# Altium footprint library JBC_245_PCB.PcbLib: 3 footprints
Each footprint in its own frame and in the unit in brackets; x right, y up, seen from the top. Pads: shape width x height; smd on the part's side, far side on the other; paste and mask are expansions set on the pad; w line width, h text height; cw(c..) or ccw(c..) is an arc to the next point about the centre after c.
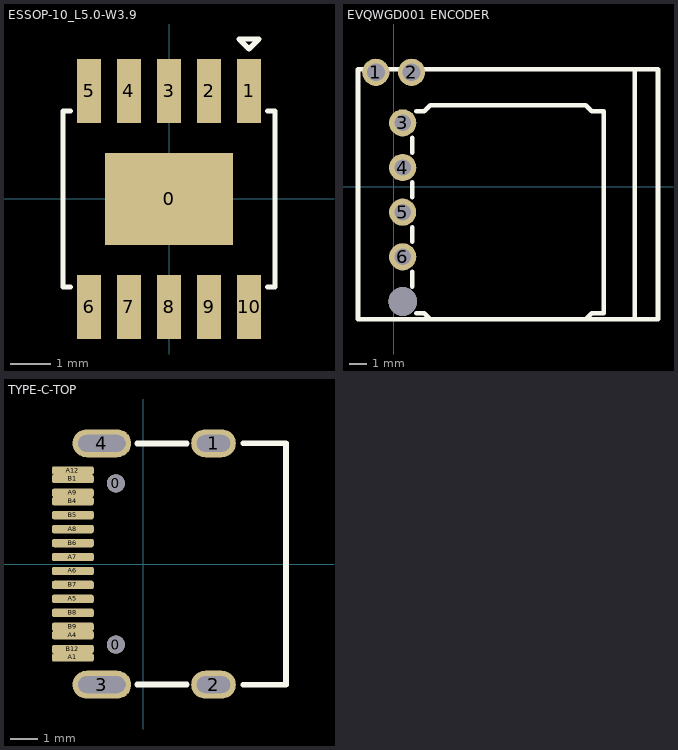
[diagram p0: the footprints below, top view; thin cyan lines are the x and y axes]

## ESSOP-10_L5.0-W3.9 [mm]
pads (11):
  rect 3.2x2.3 smd: 0(0,0)
  rect 0.6x1.6 smd: 1(2,2.7) 2(1,2.7) 3(0,2.7) 4(-1,2.7) 5(-2,2.7) 6(-2,-2.7) 7(-1,-2.7) 8(0,-2.7) 9(1,-2.7) 10(2,-2.7)
Top Overlay:
  lines w0.127: -2.468,-2.2 -2.65,-2.2 -2.65,2.2 -2.468,2.2 ; 2.468,-2.2 2.65,-2.2 2.65,2.2 2.468,2.2 ; 1.75,4 2,3.75 2.25,4 1.75,4

## EVQWGD001 ENCODER [mil]
pads (7):
  round 60 hole 39.37: 1(-39.37,252.66) 2(39.37,252.66)
  round 60 hole 36: 3(19.69,141.05) 4(19.69,42.62) 5(19.69,-55.81) 6(19.69,-154.23)
  round 62.99 hole 62.99 unplated: ""(19.69,-252.66)
Top Overlay:
  lines w10: 41.34,-219.77 41.34,-187.11 ; 41.34,-121.35 41.34,-88.68 ; 41.34,-22.92 41.34,9.74 ; 41.34,75.5 41.34,108.17 ; 49.61,-278.24 67.18,-278.24 80.71,-291.72 423.23,-291.72 436.76,-278.24 462.6,-278.24 462.6,166.64 436.76,166.64 423.23,180.12 80.71,180.12 67.18,166.64 49.61,166.64 ; 531.5,-292.02 531.5,259.16 ; -78.74,-292.02 582.68,-292.02 582.68,259.16 -78.74,259.16 -78.74,-292.02
3D body "Encoder.step": height 531.42, standoff -128.03, extent -84.37,-292.34 569.17,252.94

## TYPE-C-TOP [mm]
height 4.3
pads (22):
  round 0.65 hole 0.65: 0(-0.98,-2.89) 0(-0.98,2.89)
  oval 1.6x1 hole 0.6 slot 1.2 at 0 deg: 1(2.52,4.325) 2(2.52,-4.325)
  oval 2.1x1 hole 0.6 slot 1.7 at 0 deg: 3(-1.48,-4.325) 4(-1.48,4.325)
  rrect50% 1.5x0.3 smd: A1(-2.52,-3.35) A4(-2.52,-2.55) A5(-2.52,-1.25) A6(-2.52,-0.25) A7(-2.52,0.25) A8(-2.52,1.25) A9(-2.52,2.55) A12(-2.52,3.35) B1(-2.52,3.05) B4(-2.52,2.25) B5(-2.52,1.75) B6(-2.52,0.75) B7(-2.52,-0.75) B8(-2.52,-1.75) B9(-2.52,-2.25) B12(-2.52,-3.05)
Top Overlay:
  lines w0.203: -0.218,-4.318 1.56,-4.318 ; -0.218,4.318 1.56,4.318 ; 3.592,-4.325 5.12,-4.325 5.12,4.325 3.592,4.325
3D body "1.step": height 3.26, standoff -1, extent -2.568,-4.475 5.182,4.475